# EAGLE library part JMP/16P/DIP (library audioint)
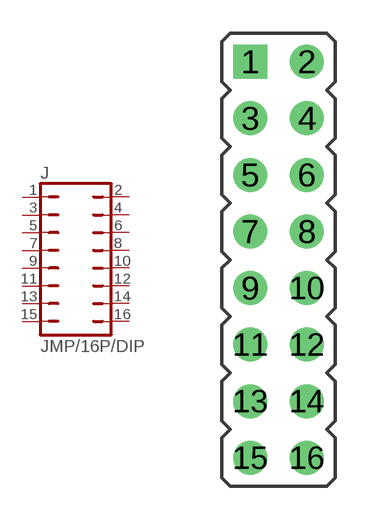
[diagram p32: symbol with the pads of JMP/16P/DIP; footprint JMP/16P/DIP]

Designator prefix J

## JMP/16P/DIPDIP  [JMP/16P/DIP]
1  1  pas
2  2  pas
3  3  pas
4  4  pas
5  5  pas
6  6  pas
7  7  pas
8  8  pas
9  9  pas
10  10  pas
11  11  pas
12  12  pas
13  13  pas
14  14  pas
15  15  pas
16  16  pas

## Footprint JMP/16P/DIP (pad centres in mm)
drill 0.914 pad 1.524 square: 1 -1.27,8.89
drill 0.914 pad 1.524 round: 2 1.27,8.89; 3 -1.27,6.35; 4 1.27,6.35; 5 -1.27,3.81; 6 1.27,3.81; 7 -1.27,1.27; 8 1.27,1.27; 9 -1.27,-1.27; 10 1.27,-1.27; 11 -1.27,-3.81; 12 1.27,-3.81; 13 -1.27,-6.35; 14 1.27,-6.35; 15 -1.27,-8.89; 16 1.27,-8.89